# EAGLE library part BQ25570_BOARD (library sensor_shields)
PIN HEADER
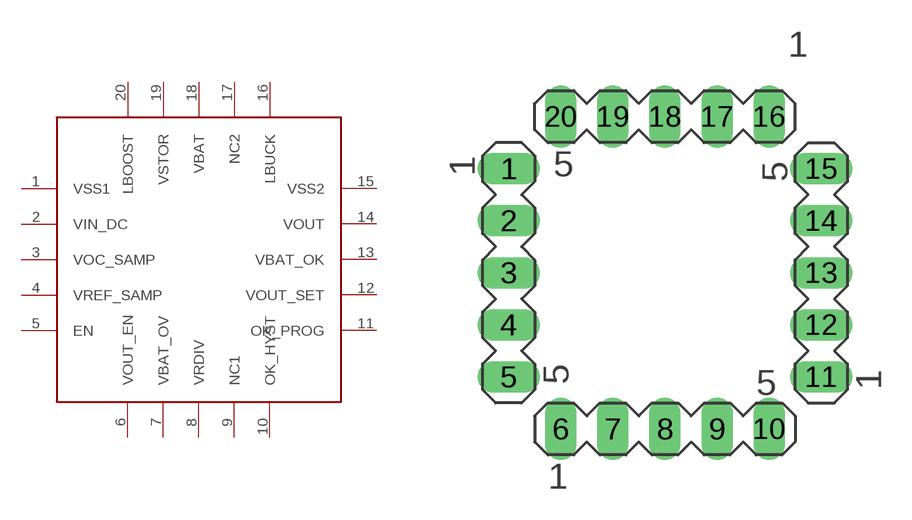
[diagram p0: symbol with the pads of MA05-1; footprint MA05-1]

Designator prefix SV

## BQ25570_BOARD (OC_FARNELL: unknown; OC_NEWARK: unknown)  [MA05-1]
1  VSS1
2  VIN_DC
3  VOC_SAMP
4  VREF_SAMP
5  EN
6  VOUT_EN
7  VBAT_OV
8  VRDIV
9  NC1
10  OK_HYST
11  OK_PROG
12  VOUT_SET
13  VBAT_OK
14  VOUT
15  VSS2
16  LBUCK
17  NC2
18  VBAT
19  VSTOR
20  LBOOST

## Footprint MA05-1 (pad centres in mm)
PIN HEADER
drill 1.016 long: 1 -7.62,5.08; 2 -7.62,2.54; 3 -7.62,0; 4 -7.62,-2.54; 5 -7.62,-5.08; 6 -5.08,-7.62; 7 -2.54,-7.62; 8 0,-7.62; 9 2.54,-7.62; 10 5.08,-7.62; 11 7.62,-5.08; 12 7.62,-2.54; 13 7.62,0; 14 7.62,2.54; 15 7.62,5.08; 16 5.08,7.62; 17 2.54,7.62; 18 0,7.62; 19 -2.54,7.62; 20 -5.08,7.62